# Altium footprint library PCB - MICROPHONE - TDK ICS-40619.PcbLib: 1 footprints
Each footprint in its own frame and in the unit in brackets; x right, y up, seen from the top. Pads: shape width x height; smd on the part's side, far side on the other; paste and mask are expansions set on the pad; w line width, h text height; cw(c..) or ccw(c..) is an arc to the next point about the centre after c.
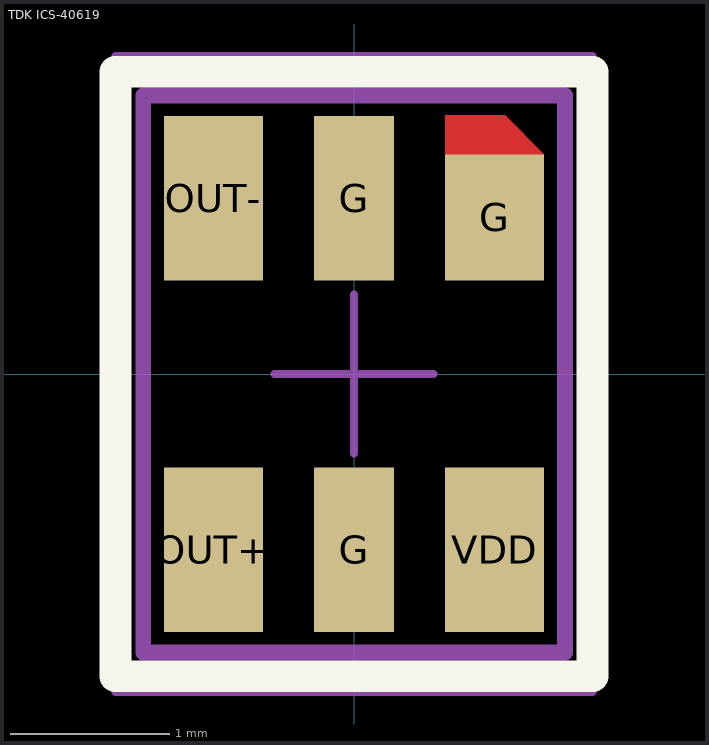
[diagram p0: the footprint, top view; thin cyan lines are the x and y axes]

## TDK ICS-40619 [mm] "Ultra-Low Noise Microphone with Differential Output 3.5x2.65"
height 0.98
pads (6):
  rect 0.5x1.032 smd: G(0,-1.105) G(0,1.105)
  rect 0.622x0.792 smd: G(0.884,0.985)
  rect 0.622x1.032 smd: OUT+(-0.884,-1.105) OUT-(-0.884,1.105) VDD(0.884,-1.105)
Top Layer:
  region: 0.575,1.35 0.575,1.625 0.949,1.625 1.194,1.38 1.194,1.35
Top Overlay:
  lines w0.2: -1.5,-1.9 1.5,-1.9 1.5,1.9 -1.5,1.9 -1.5,-1.9
Mechanical 13:
  lines w0.1: -1.325,-1.75 -1.325,1.75 1.325,1.75 1.325,-1.75 -1.325,-1.75
Mechanical 15:
  lines w0.05: -0.5,0 0.5,0 ; 0,-0.5 0,0.5 ; -1.5,-2 -1.5,2 1.5,2 1.5,-2 -1.5,-2
3D body "TDK - ICS-40619.step": height 1.08, standoff 0, extent -1.325,-1.75 1.325,1.75